# Altium footprint library 6LT400-5-1-1PCBb.PcbLib: 39 footprints (part 2 of 3)
Each footprint in its own frame and in the unit in brackets; x right, y up, seen from the top. Pads: shape width x height; smd on the part's side, far side on the other; paste and mask are expansions set on the pad; w line width, h text height; cw(c..) or ccw(c..) is an arc to the next point about the centre after c.
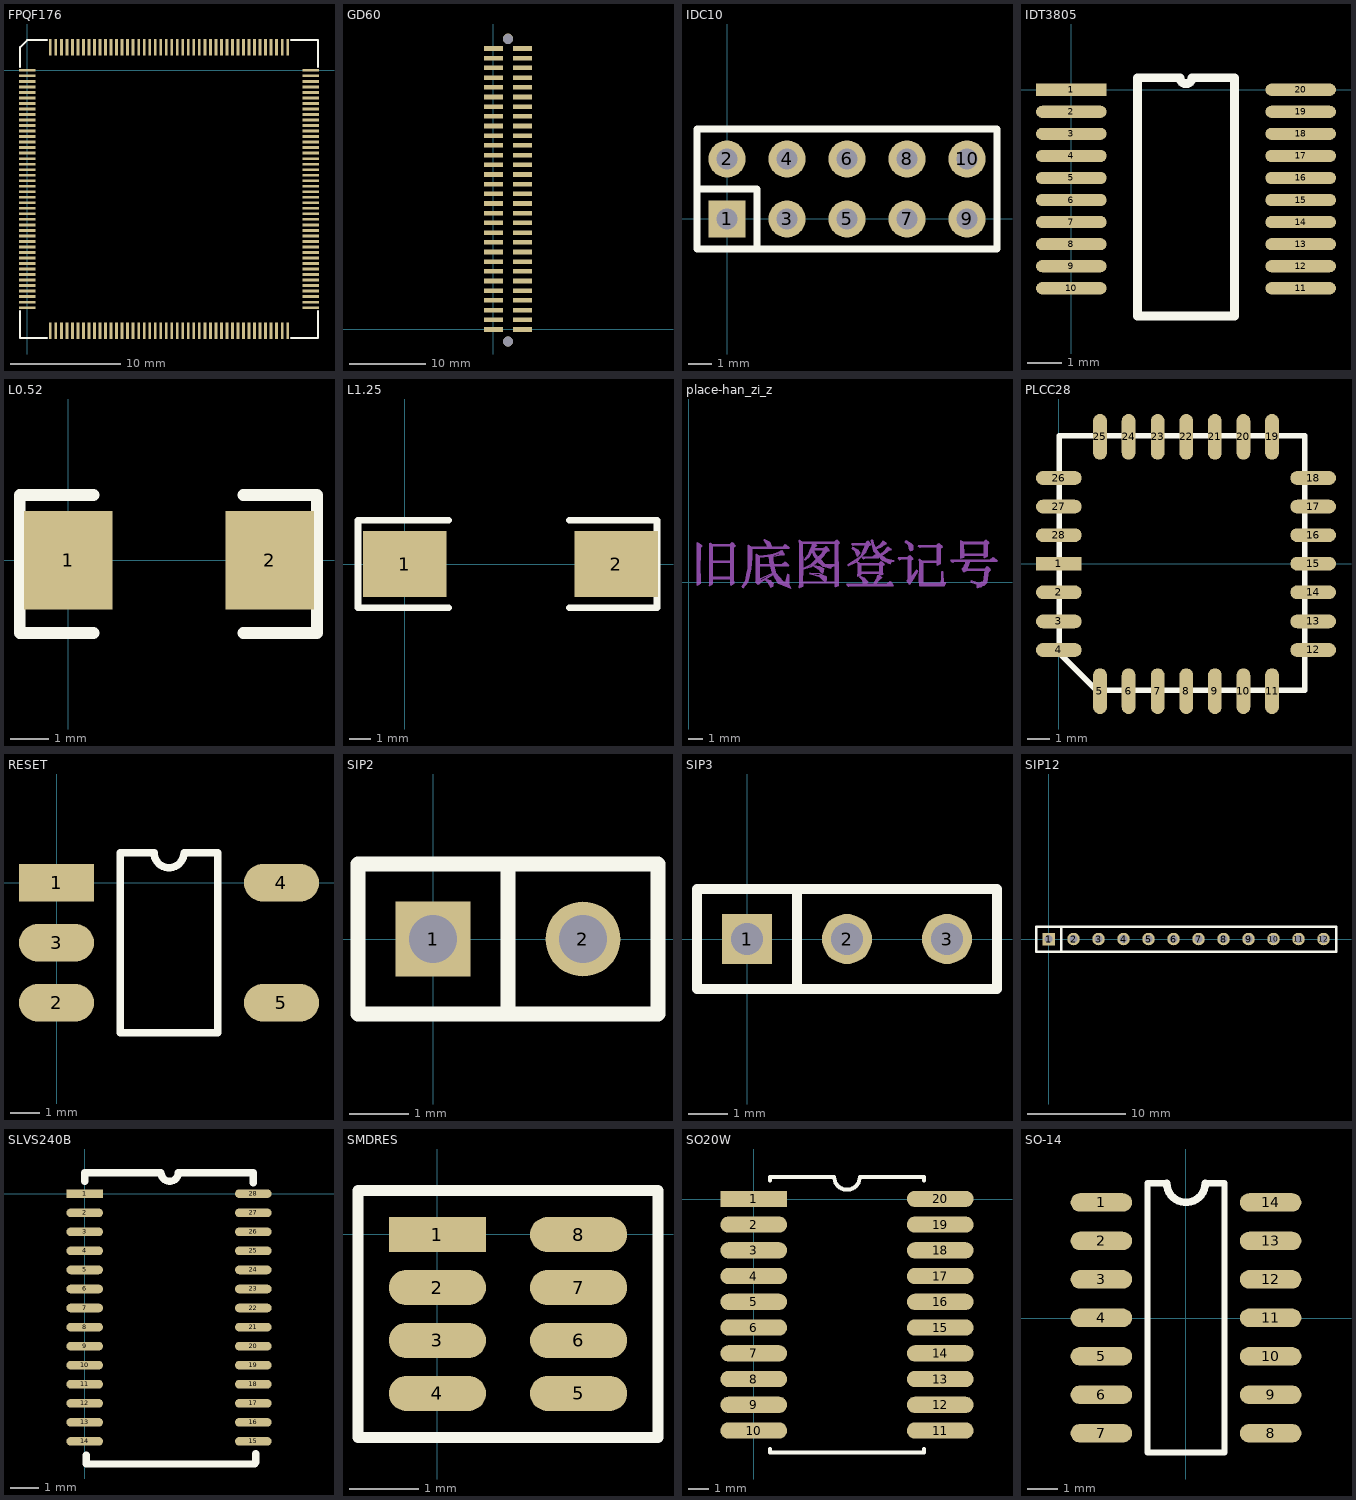
[diagram p1: the footprints below, top view; thin cyan lines are the x and y axes]

## FPQF176 [mm]
pads (176):
  rect 1.5x0.25 smd: 1(0.009,-0.001) 2(0.009,-0.501) 3(0.009,-1.001) 4(0.009,-1.501) 5(0.009,-2.001) 6(0.009,-2.501) 7(0.009,-3.001) 8(0.009,-3.501) 9(0.009,-4.001) 10(0.009,-4.501) 11(0.009,-5.001) 12(0.009,-5.501) 13(0.009,-6.001) 14(0.009,-6.501) 15(0.009,-7.001) 16(0.009,-7.501) 17(0.009,-8.001) 18(0.009,-8.501) 19(0.009,-9.001) 20(0.009,-9.501) 21(0.009,-10.001) 22(0.009,-10.501) 23(0.009,-11.001) 24(0.009,-11.501) 25(0.009,-12.001) 26(0.009,-12.501) 27(0.009,-13.001) 28(0.009,-13.501) 29(0.009,-14.001) 30(0.009,-14.501) 31(0.009,-15.001) 32(0.009,-15.501) 33(0.009,-16.001) 34(0.009,-16.501) 35(0.009,-17.001) 36(0.009,-17.501) 37(0.009,-18.001) 38(0.009,-18.501) 39(0.009,-19.001) 40(0.009,-19.501) 41(0.009,-20.001) 42(0.009,-20.501) 43(0.009,-21.001) 44(0.009,-21.501) 89(25.689,-21.501) 90(25.689,-21.001) 91(25.689,-20.501) 92(25.689,-20.001) 93(25.689,-19.501) 94(25.689,-19.001) 95(25.689,-18.501) 96(25.689,-18.001) 97(25.689,-17.501) 98(25.689,-17.001) 99(25.689,-16.501) 100(25.689,-16.001) 101(25.689,-15.501) 102(25.689,-15.001) 103(25.689,-14.501) 104(25.689,-14.001) 105(25.689,-13.501) 106(25.689,-13.001) 107(25.689,-12.501) 108(25.689,-12.001) 109(25.689,-11.501) 110(25.689,-11.001) 111(25.689,-10.501) 112(25.689,-10.001) 113(25.689,-9.501) 114(25.689,-9.001) 115(25.689,-8.501) 116(25.689,-8.001) 117(25.689,-7.501) 118(25.689,-7.001) 119(25.689,-6.501) 120(25.689,-6.001) 121(25.689,-5.501) 122(25.689,-5.001) 123(25.689,-4.501) 124(25.689,-4.001) 125(25.689,-3.501) 126(25.689,-3.001) 127(25.689,-2.501) 128(25.689,-2.001) 129(25.689,-1.501) 130(25.689,-1.001) 131(25.689,-0.501) 132(25.689,-0.001)
  rect 0.25x1.5 smd: 45(2.099,-23.591) 46(2.599,-23.591) 47(3.099,-23.591) 48(3.599,-23.591) 49(4.099,-23.591) 50(4.599,-23.591) 51(5.099,-23.591) 52(5.599,-23.591) 53(6.099,-23.591) 54(6.599,-23.591) 55(7.099,-23.591) 56(7.599,-23.591) 57(8.099,-23.591) 58(8.599,-23.591) 59(9.099,-23.591) 60(9.599,-23.591) 61(10.099,-23.591) 62(10.599,-23.591) 63(11.099,-23.591) 64(11.599,-23.591) 65(12.099,-23.591) 66(12.599,-23.591) 67(13.099,-23.591) 68(13.599,-23.591) 69(14.099,-23.591) 70(14.599,-23.591) 71(15.099,-23.591) 72(15.599,-23.591) 73(16.099,-23.591) 74(16.599,-23.591) 75(17.099,-23.591) 76(17.599,-23.591) 77(18.099,-23.591) 78(18.599,-23.591) 79(19.099,-23.591) 80(19.599,-23.591) 81(20.099,-23.591) 82(20.599,-23.591) 83(21.099,-23.591) 84(21.599,-23.591) 85(22.099,-23.591) 86(22.599,-23.591) 87(23.099,-23.591) 88(23.599,-23.591) 133(23.599,2.089) 134(23.099,2.089) 135(22.599,2.089) 136(22.099,2.089) 137(21.599,2.089) 138(21.099,2.089) 139(20.599,2.089) 140(20.099,2.089) 141(19.599,2.089) 142(19.099,2.089) 143(18.599,2.089) 144(18.099,2.089) 145(17.599,2.089) 146(17.099,2.089) 147(16.599,2.089) 148(16.099,2.089) 149(15.599,2.089) 150(15.099,2.089) 151(14.599,2.089) 152(14.099,2.089) 153(13.599,2.089) 154(13.099,2.089) 155(12.599,2.089) 156(12.099,2.089) 157(11.599,2.089) 158(11.099,2.089) 159(10.599,2.089) 160(10.099,2.089) 161(9.599,2.089) 162(9.099,2.089) 163(8.599,2.089) 164(8.099,2.089) 165(7.599,2.089) 166(7.099,2.089) 167(6.599,2.089) 168(6.099,2.089) 169(5.599,2.089) 170(5.099,2.089) 171(4.599,2.089) 172(4.099,2.089) 173(3.599,2.089) 174(3.099,2.089) 175(2.599,2.089) 176(2.099,2.089)
Top Overlay:
  lines w0.2: -0.641,-21.801 -0.641,-24.241 1.799,-24.241 ; -0.641,0.299 -0.641,2.089 0.009,2.739 1.799,2.739 ; 23.899,-24.241 26.339,-24.241 26.339,-21.801 ; 23.899,2.739 26.339,2.739 26.339,0.299

## GD60 [mm]
pads (60):
  rect 2.5x0.6 smd: 1(0,0) 2(3.81,0) 3(0,1.27) 4(3.81,1.27) 5(0,2.54) 6(3.81,2.54) 7(0,3.81) 8(3.81,3.81) 9(0,5.08) 10(3.81,5.08) 11(0,6.35) 12(3.81,6.35) 13(0,7.62) 14(3.81,7.62) 15(0,8.89) 16(3.81,8.89) 17(0,10.16) 18(3.81,10.16) 19(0,11.43) 20(3.81,11.43) 21(0,12.7) 22(3.81,12.7) 23(0,13.97) 24(3.81,13.97) 25(0,15.24) 26(3.81,15.24) 27(0,16.51) 28(3.81,16.51) 29(0,17.78) 30(3.81,17.78) 31(0,19.05) 32(3.81,19.05) 33(0,20.32) 34(3.81,20.32) 35(0,21.59) 36(3.81,21.59) 37(0,22.86) 38(3.81,22.86) 39(0,24.13) 40(3.81,24.13) 41(0,25.4) 42(3.81,25.4) 43(0,26.67) 44(3.81,26.67) 45(0,27.94) 46(3.81,27.94) 47(0,29.21) 48(3.81,29.21) 49(0,30.48) 50(3.81,30.48) 51(0,31.75) 52(3.81,31.75) 53(0,33.02) 54(3.81,33.02) 55(0,34.29) 56(3.81,34.29) 57(0,35.56) 58(3.81,35.56) 59(0,36.83) 60(3.81,36.83)
via 1.905,38.1 diameter 1.35 hole 1.3
via 1.905,-1.59 diameter 1.35 hole 1.3

## IDC10 [mil]
pads (10):
  rect 62x62 hole 35.43: 1(-0.38,-0.26)
  round 62 hole 35.43: 2(-0.38,99.74) 3(99.62,-0.26) 4(99.62,99.74) 5(199.62,-0.26) 6(199.62,99.74) 7(299.62,-0.26) 8(299.62,99.74) 9(399.62,-0.26) 10(399.62,99.74)
Top Overlay:
  lines w12: -50.38,49.74 49.62,49.74 49.62,-50.26 ; -50.38,-50.26 -50.38,149.74 449.62,149.74 449.62,-50.26 -50.38,-50.26

## IDT3805 [mil]
pads (20):
  rect 80x13.78 smd: 1(0,0)
  oval 80x13.78 smd: 2(0,-25) 3(0,-50) 4(0,-75) 5(0,-100) 6(0,-125) 7(0,-150) 8(0,-175) 9(0,-200) 10(0,-225) 11(260,-225) 12(260,-200) 13(260,-175) 14(260,-150) 15(260,-125) 16(260,-100) 17(260,-75) 18(260,-50) 19(260,-25) 20(260,0)
Top Overlay:
  lines w10: 75,-256.5 185,-256.5 185,13.5 136.75,13.5 cw(c130,13.5) 123.25,13.5 75,13.5 75,-256.5

## L0.52 [mil]
pads (2):
  rect 90x100 smd: 1(0,0) 2(204.72,0)
Top Overlay:
  lines w12: 25.83,-73.94 -49.17,-73.94 -49.17,66.06 25.83,66.06 ; 177.76,-73.94 252.76,-73.94 252.76,66.06 177.76,66.06

## L1.25 [mm]
pads (2):
  rect 3.813x3 smd: 1(0.012,0) 2(9.652,0)
Top Overlay:
  lines w0.305: -2.127,-2 -2.127,2 ; -1.988,-2 2.012,-2 ; -1.988,2 2.012,2 ; 7.512,-2 11.512,-2 11.512,2 7.512,2

## place-han_zi_z [mm]
Mechanical 1:
  drawing of 919 lines, arcs and shapes, not listed

## PLCC28 [mil]
pads (28):
  rect 80x24 smd: 1(0,0)
  oval 80x24 smd: 2(0,-50) 3(0,-101) 4(0,-151) 12(445,-151) 13(445,-101) 14(445,-50) 15(445,0) 16(445,50) 17(445,100) 18(445,150) 26(0,150) 27(0,100) 28(0,50)
  oval 24x80 smd: 5(72,-223) 6(122,-223) 7(173,-223) 8(223,-223) 9(273,-223) 10(323,-223) 11(373,-223) 19(373,222) 20(323,222) 21(273,222) 22(223,222) 23(173,222) 24(122,222) 25(72,222)
Top Overlay:
  lines w10: 0.53,-156.24 0.53,223.76 430.53,223.76 430.53,-221.24 65.53,-221.24 0.53,-156.24

## RESET [mil]
pads (5):
  rect 100x50 smd: 1(0,0)
  oval 100x50 smd: 2(0,-160) 3(0,-80) 4(300,0) 5(300,-160)
Top Overlay:
  lines w10: 85,-200 85,40 130,40 ccw(c150,40) 170,40 215,40 215,-200 85,-200

## SIP2 [mil]
pads (2):
  rect 50x50 hole 32: 1(0,0)
  round 50 hole 32: 2(100,0)
Top Overlay:
  lines w10: 50,-50 50,50 ; -50,-50 150,-50 150,50 -50,50 -50,-50

## SIP3 [mil]
pads (3):
  rect 50x50 hole 32: 1(0,0)
  round 50 hole 32: 2(100,0) 3(200,0)
Top Overlay:
  lines w10: 50,-50 50,50 ; -50,-50 250,-50 250,50 -50,50 -50,-50

## SIP12 [mil]
pads (12):
  rect 50x50 hole 32: 1(0,0)
  round 50 hole 32: 2(100,0) 3(200,0) 4(300,0) 5(400,0) 6(500,0) 7(600,0) 8(700,0) 9(800,0) 10(900,0) 11(1000,0) 12(1100,0)
Top Overlay:
  lines w10: 50,-50 50,50 ; -50,-50 1150,-50 1150,50 -50,50 -50,-50

## SLVS240B [mil]
pads (28):
  rect 50x11.81 smd: 1(0,0)
  oval 50x11.81 smd: 2(0,-26) 3(0,-52) 4(0,-78) 5(0,-104) 6(0,-130) 7(0,-156) 8(0,-182) 9(0,-208) 10(0,-234) 11(0,-260) 12(0,-286) 13(0,-312) 14(0,-338) 15(230,-338) 16(230,-312) 17(230,-286) 18(230,-260) 19(230,-234) 20(230,-208) 21(230,-182) 22(230,-156) 23(230,-130) 24(230,-104) 25(230,-78) 26(230,-52) 27(230,-26) 28(230,0)
Top Overlay:
  lines w10: 0,16.73 0,28.75 101.73,28.75 ; 2,-357.05 2,-368.86 232,-368.86 ; 104.17,28.75 ccw(c115.98,28.75) 127.79,28.75 ; 130.36,28.75 230,28.75 230,15.08 ; 233.3,-366.89 233.3,-355.08

## SMDRES [mil]
pads (8):
  rect 55x20 smd: 1(0.03,-0.3)
  oval 55x20 smd: 2(0.03,-30.3) 3(0.03,-60.3) 4(0.03,-90.3) 5(80.03,-90.3) 6(80.03,-60.3) 7(80.03,-30.3) 8(80.03,-0.3)
Top Overlay:
  lines w6: -44.97,-115.3 -44.97,24.7 125.03,24.7 125.03,-115.3 ; -44.81,-115.3 123.19,-115.3

## SO20W [mm]
pads (20):
  rect 3.302x0.8 smd: 1(0.004,0.008)
  oval 3.302x0.8 smd: 2(0.004,-1.262) 3(0.004,-2.532) 4(0.004,-3.802) 5(0.004,-5.072) 6(0.004,-6.342) 7(0.004,-7.612) 8(0.004,-8.882) 9(0.004,-10.152) 10(0.004,-11.422) 11(9.204,-11.422) 12(9.204,-10.152) 13(9.204,-8.882) 14(9.204,-7.612) 15(9.204,-6.342) 16(9.204,-5.072) 17(9.204,-3.802) 18(9.204,-2.532) 19(9.204,-1.262) 20(9.204,0.008)
Top Overlay:
  lines w0.2: 0.804,-12.322 0.804,-12.507 8.404,-12.507 8.404,-12.322 ; 0.804,0.908 0.804,1.093 3.969,1.093 ccw(c4.604,1.093) 5.239,1.093 8.404,1.093 8.404,0.908

## SO-14 [mil]
pads (14):
  oval 80x24 smd: 1(-109.91,150.26) 2(-109.91,100.26) 3(-109.91,50.26) 4(-109.91,0.26) 5(-109.91,-49.74) 6(-109.91,-99.74) 7(-109.91,-149.74) 8(110.09,-149.74) 9(110.09,-99.74) 10(110.09,-49.74) 11(110.09,0.26) 12(110.09,50.26) 13(110.09,100.26) 14(110.09,150.26)
Top Overlay:
  lines w8: -24.91,175.26 -49.91,175.26 -49.91,-174.74 50.09,-174.74 50.09,175.26 25.09,175.26
  lines w10: -24.91,175.26 ccw(c0.09,175.26) 25.09,175.26